# Altium footprint library PcbLib1.PcbLib: 15 footprints
Each footprint in its own frame and in the unit in brackets; x right, y up, seen from the top. Pads: shape width x height; smd on the part's side, far side on the other; paste and mask are expansions set on the pad; w line width, h text height; cw(c..) or ccw(c..) is an arc to the next point about the centre after c.
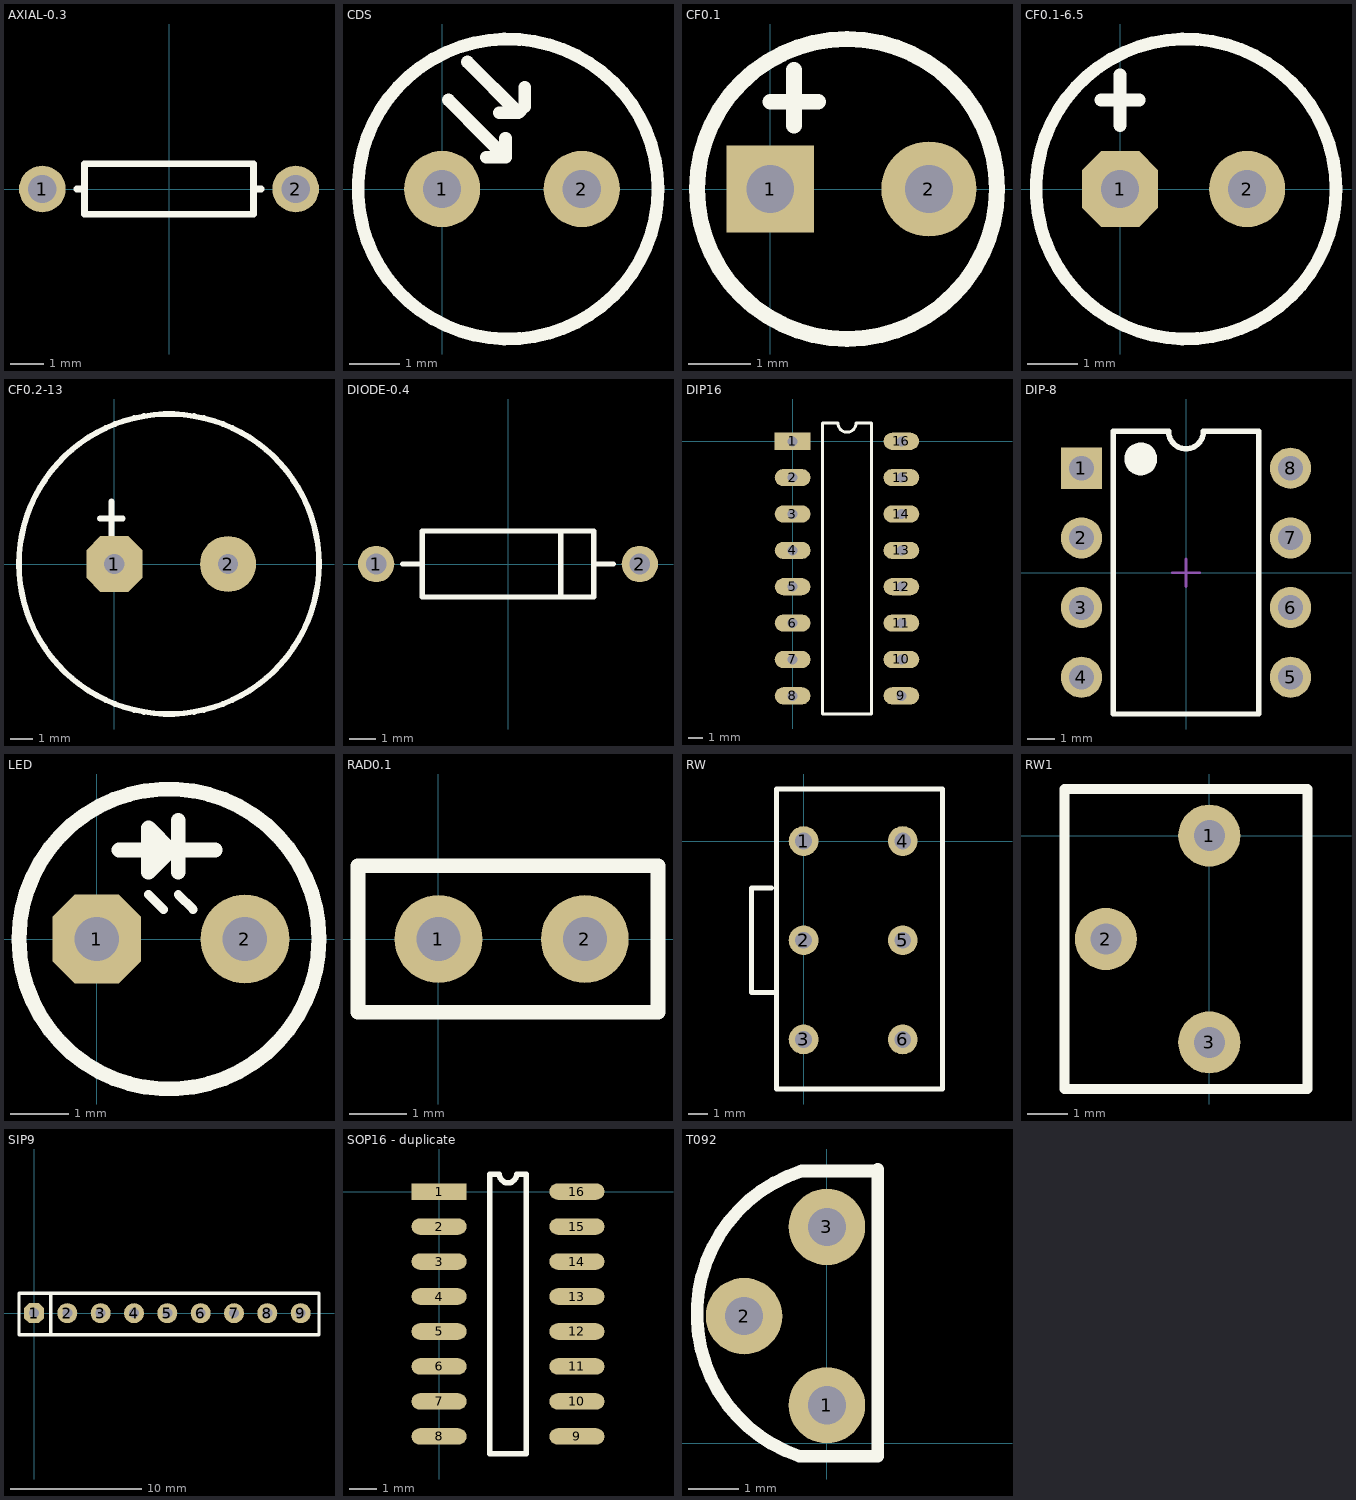
[diagram p0: the footprints below, top view; thin cyan lines are the x and y axes]

## AXIAL-0.3 [mm] "Axial Device, Thru-Hole; 2 Leads; 0.3 in Pin Spacing"
height 1.524
pads (2):
  round 1.4 hole 0.85: 1(-3.81,0) 2(3.81,0)
Top Overlay:
  lines w0.2: -2.769,0 -2.54,0 ; 2.769,0 2.54,0 ; 2.54,0 2.54,0.762 -2.54,0.762 -2.54,-0.762 2.54,-0.762 2.54,0

## CDS [mil]
pads (2):
  round 60 hole 30: 1(0,0) 2(110,0)
Top Overlay:
  circle w10: c51.89,0 r118.11
  lines w10: 5,70 35,40 45,30 50,25 ; 20,100 60,60 ; 35,25 50,25 ; 45,60 60,60 ; 50,40 50,25 ; 65,80 65,65 60,60

## CF0.1 [mil]
pads (2):
  rect 55.12x55.12 hole 30: 1(0,0)
  round 60 hole 30: 2(100,0)
Top Overlay:
  circle w10: c48.39,0 r94.49
  lines w10: 0,55 30,55 ; 15,40 15,75

## CF0.1-6.5 [mil]
pads (2):
  oct 60x60 hole 30: 1(0,0)
  round 60 hole 30: 2(100,0)
Top Overlay:
  circle w10: c51.89,0 r118.11
  lines w10: -15,70 15,70 ; 0,50 0,90

## CF0.2-13 [mm]
pads (2):
  oct 2.5x2.5 hole 0.9: 1(0,0)
  round 2.5 hole 0.9: 2(5.08,0)
Top Overlay:
  circle w0.254: c2.444,0 r6.7
  lines w0.254: -0.635,2.032 0.381,2.032 ; -0.127,1.143 -0.127,2.794

## DIODE-0.4 [mm] "Diode, Thru-Hole; 2 Leads; 0.4 in Pin Spacing"
height 2.54
pads (2):
  round 1.4 hole 0.8: 1(-5.08,0) 2(5.08,0)
Top Overlay:
  lines w0.2: -4.064,0 -3.302,0 ; 2.032,-1.27 2.032,1.27 ; 3.302,0 4.064,0 ; -3.302,-1.27 -3.302,1.27 3.302,1.27 3.302,-1.27 -3.302,-1.27

## DIP16 [mm]
pads (16):
  rect 2.5x1.2 hole 0.7: 1(0,0)
  oval 2.5x1.2 hole 0.7: 2(0,-2.54) 3(0,-5.08) 4(0,-7.62) 5(0,-10.16) 6(0,-12.7) 7(0,-15.24) 8(0,-17.78) 9(7.6,-17.78) 10(7.6,-15.24) 11(7.6,-12.7) 12(7.6,-10.16) 13(7.6,-7.62) 14(7.6,-5.08) 15(7.6,-2.54) 16(7.6,0)
Top Overlay:
  lines w0.2: 2.085,-19.05 5.515,-19.05 5.515,1.27 4.435,1.27 cw(c3.8,1.27) 3.165,1.27 2.085,1.27 2.085,-19.05

## DIP-8 [mm] "DIP; 8 Leads; Row Spacing 7.62 mm; Pitch 2.54 mm"
height 5.08
pads (8):
  rect 1.5x1.5 hole 0.9: 1(-3.81,3.81)
  round 1.5 hole 0.9: 2(-3.81,1.27) 3(-3.81,-1.27) 4(-3.81,-3.81) 5(3.81,-3.81) 6(3.81,-1.27) 7(3.81,1.27) 8(3.81,3.81)
Top Overlay:
  circle w0.6: c-1.65,4.15 r0.3
  lines w0.2: -2.65,-5.15 2.65,-5.15 2.65,5.15 0.635,5.15 cw(c0,5.15) -0.635,5.15 -2.65,5.15 -2.65,-5.15
Mechanical 15:
  lines w0.1: -0.5,0 0.5,0 ; 0,-0.5 0,0.5

## LED [mil]
pads (2):
  oct 60x60 hole 30: 1(0,0)
  round 60 hole 30: 2(100,0)
Top Overlay:
  circle w10: c48.76,0 r101.24
  lines w6.06: 35,30 45,20 ; 55,30 65,20
  lines w10: 15,60 80,60 ; 55,45 55,80 ; 35,45 50,60 35,75 35,45

## RAD0.1 [mil]
pads (2):
  round 60 hole 30: 1(0,0) 2(100,0)
Top Overlay:
  lines w10: -55,-50 150,-50 150,50 -55,50 -55,-50

## RW [mil]
pads (6):
  round 60 hole 33.94: 1(0,0) 2(0,-200) 3(0,-400) 4(200,0) 5(200,-200) 6(200,-400)
Top Overlay:
  lines w10: -65,-95 -105,-95 -105,-305 -55,-305 ; -55,-500 280,-500 280,105 -55,105 -55,-500

## RW1 [mil]
pads (3):
  round 60 hole 30: 1(0,0) 2(-100,-100) 3(0,-200)
Top Overlay:
  lines w10: -140,-245 95,-245 95,45 -140,45 -140,-245

## SIP9 [mil]
pads (9):
  oct 60x60 hole 30: 1(0,0)
  round 60 hole 30: 2(100,0) 3(200,0) 4(300,0) 5(400,0) 6(500,0) 7(600,0) 8(700,0) 9(800,0)
Top Overlay:
  lines w10: 50,-65 50,60 ; -45,-65 -45,60 -35,60 855,60 855,-65 -45,-65

## SOP16 - duplicate [mm]
pads (16):
  rect 2x0.6 smd: 1(0,0)
  oval 2x0.6 smd: 2(0,-1.27) 3(0,-2.54) 4(0,-3.81) 5(0,-5.08) 6(0,-6.35) 7(0,-7.62) 8(0,-8.89) 9(5,-8.89) 10(5,-7.62) 11(5,-6.35) 12(5,-5.08) 13(5,-3.81) 14(5,-2.54) 15(5,-1.27) 16(5,0)
Top Overlay:
  lines w0.2: 1.835,-9.525 3.165,-9.525 3.165,0.635 2.818,0.635 cw(c2.5,0.635) 2.183,0.635 1.835,0.635 1.835,-9.525

## T092 [mil]
pads (3):
  round 60 hole 30: 1(0,30) 2(-65,100) 3(0,170)
Top Overlay:
  lines w10: 38.81,213.81 -20,213.81 ccw(c15.8,101.64) -21.6,-10 40,-10 40,215